# Altium schematic symbol library 473460001.SchLib: 2 symbols
Pins are listed as number, name and electrical type; pins without a type are passive.

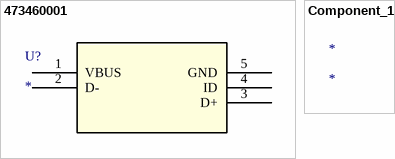
[diagram p0: symbols 473460001 to Component_1]

## 473460001
designator U?
No Description Available; Mfr_Name: Molex Connector Corporation; RefDes: RefDes; Type: Type
footprint 47346-0001_MOL
pins: 1 VBUS, 2 D-, 3 D+, 4 ID, 5 GND (power)

## Component_1
designator *